# Altium footprint library Card_reader.PcbLib: 19 footprints (part 1 of 2)
Each footprint in its own frame and in the unit in brackets; x right, y up, seen from the top. Pads: shape width x height; smd on the part's side, far side on the other; paste and mask are expansions set on the pad; w line width, h text height; cw(c..) or ccw(c..) is an arc to the next point about the centre after c.
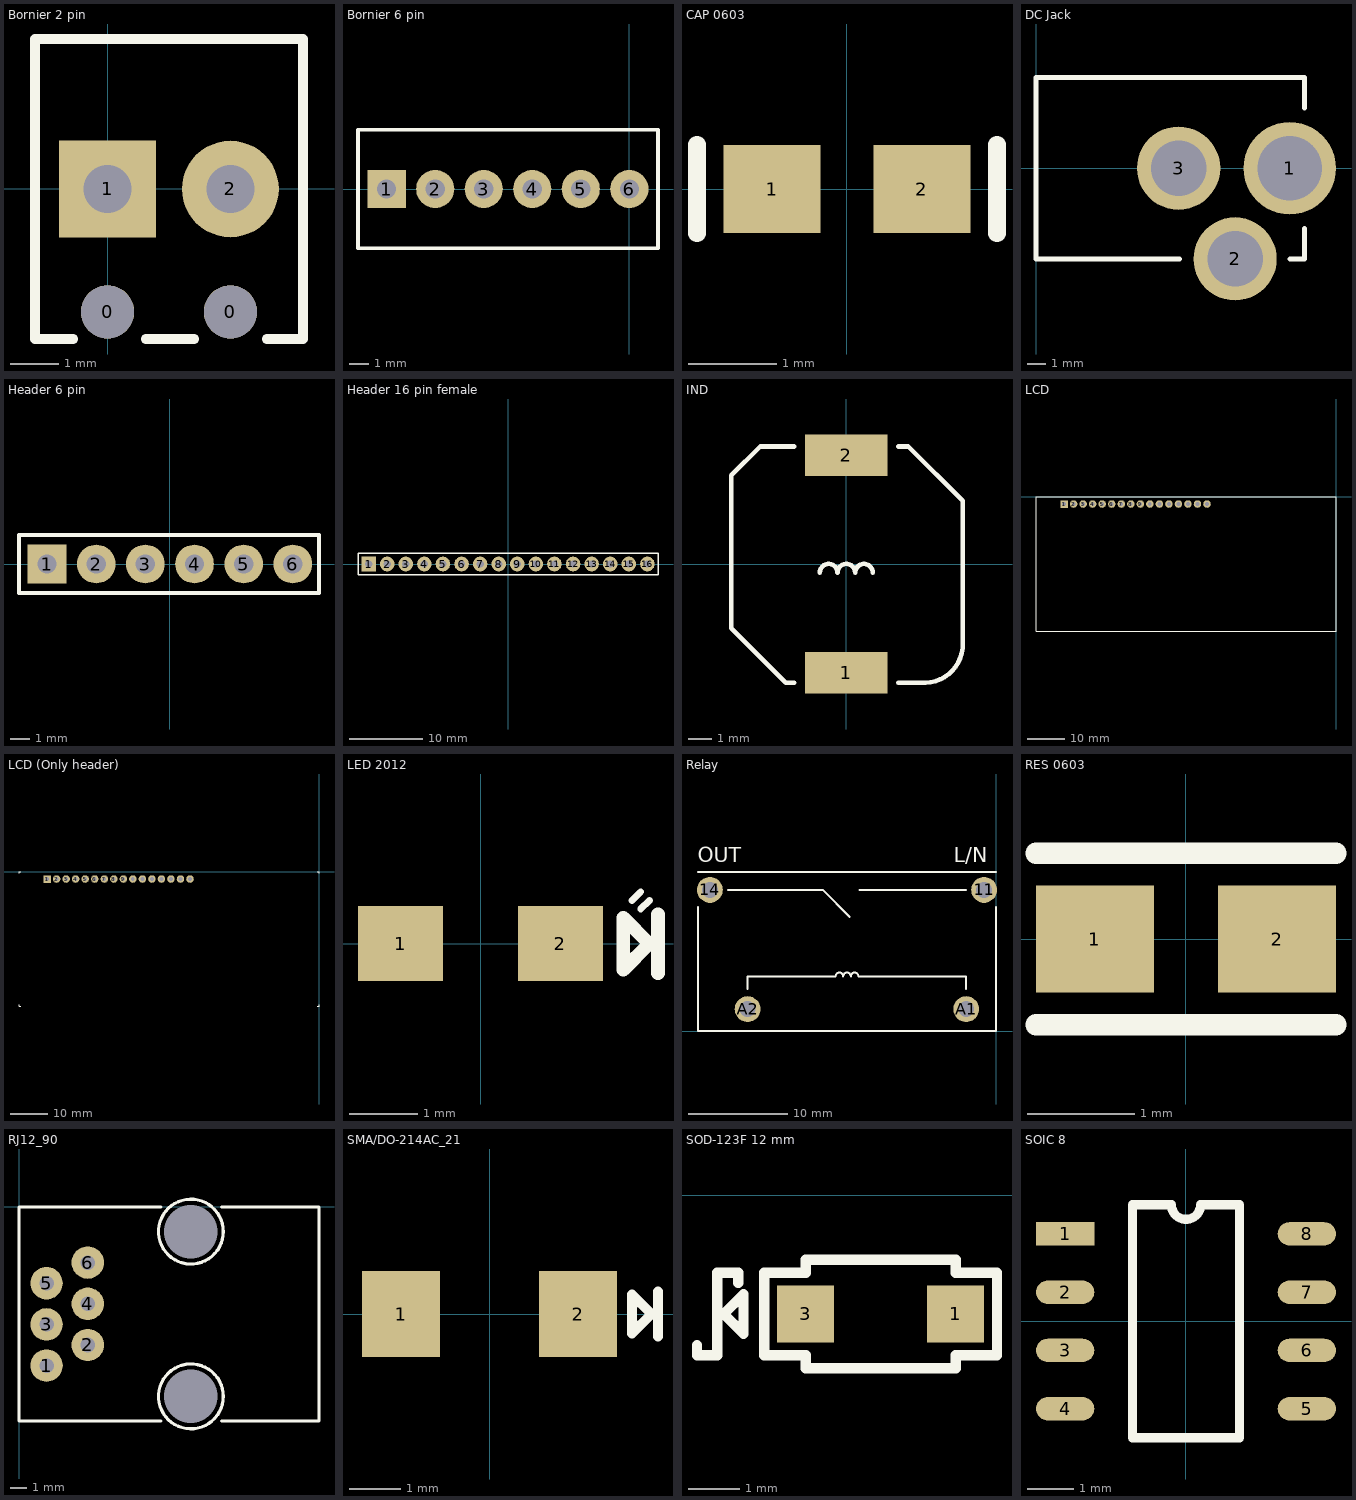
[diagram p0: the footprints below, top view; thin cyan lines are the x and y axes]

## Bornier 2 pin [mm]
pads (4):
  round 1.1 hole 1.1: 0(0,-2.54) 0(2.54,-2.54)
  rect 2x2 hole 1: 1(0,0)
  round 2 hole 1: 2(2.54,0)
Top Overlay:
  lines w0.2: -0.71,-3.1 -1.5,-3.1 -1.5,3.1 4.04,3.1 4.04,-3.1 3.29,-3.1 ; 0.79,-3.1 1.79,-3.1
3D body: height 8.5, standoff -3.5, extent -1.5,-3.1 4.04,3.1

## Bornier 6 pin [mm]
pads (6):
  rect 2x2 hole 1: 1(-12.7,0)
  round 2 hole 1: 2(-10.16,0) 3(-7.62,0) 4(-5.08,0) 5(-2.54,0) 6(0,0)
Top Overlay:
  lines w0.2: -14.2,-3.1 -14.2,3.1 1.5,3.1 1.5,-3.1 -14.2,-3.1
3D body: height 8.5, standoff -3.5, extent -14.2,-3.1 1.5,3.1

## CAP 0603 [mm]
pads (2):
  rect 1.1x1 smd: 1(-0.85,0) 2(0.85,0)
Top Overlay:
  lines w0.2: -1.7,-0.5 -1.7,0.5 ; 1.7,-0.5 1.7,0.5
3D body: height 0.3, standoff 0, extent -0.8,-0.4 0.8,0.4

## DC Jack [mm]
pads (3):
  round 5 hole 3.5: 1(13.7,0)
  round 4.5 hole 3: 2(10.75,-4.9) 3(7.7,0)
Top Overlay:
  lines w0.254: 7.75,-4.9 0,-4.9 0,4.9 14.5,4.9 14.5,3.25 ; 13.7,-4.9 14.5,-4.9 14.5,-3.25
3D body: height 10.75, standoff -4, extent 0,-4.8 14.2,4.9

## Header 6 pin [mm]
pads (6):
  rect 2x2 hole 1: 1(-6.35,0)
  round 2 hole 1: 2(-3.81,0) 3(-1.27,0) 4(1.27,0) 5(3.81,0) 6(6.35,0)
Top Overlay:
  lines w0.2: -7.8,-1.5 -7.8,1.5 7.7,1.5 7.7,-1.5 -7.8,-1.5
3D body: height 8.85, standoff -2.58, extent -7.695,-1.25 7.545,1.29

## Header 16 pin female [mm]
pads (16):
  rect 2x2 hole 1: 1(-19.05,0)
  round 2 hole 1: 2(-16.51,0) 3(-13.97,0) 4(-11.43,0) 5(-8.89,0) 6(-6.35,0) 7(-3.81,0) 8(-1.27,0) 9(1.27,0) 10(3.81,0) 11(6.35,0) 12(8.89,0) 13(11.43,0) 14(13.97,0) 15(16.51,0) 16(19.05,0)
Top Overlay:
  lines w0.2: -20.5,-1.5 20.5,-1.5 20.5,1.5 -20.5,1.5 -20.5,-1.5
3D body: height 8.79, standoff -3.08, extent -20.395,-1.237 20.395,1.238

## IND [mm]
pads (2):
  rect 3.56x1.78 smd: 1(0,-4.7) 2(0,4.7)
Top Overlay:
  lines w0.2: -2.25,-5.125 -2.625,-5.125 -4.975,-2.775 -4.975,3.825 -3.725,5.075 -2.25,5.075 ; -1.143,-0.375 cw(c-0.762,-0.375) -0.381,-0.375 cw(c0,-0.375) 0.381,-0.375 cw(c0.762,-0.375) 1.143,-0.375 ; 2.25,-5.125 3.2,-5.125 ccw(c3.363,-3.463) 5.025,-3.625 5.025,2.725 2.675,5.075 2.25,5.075
3D body: height 5, standoff -0.1, extent -5.1,-5.15 5.1,5.15

## LCD [mm]
pads (16):
  rect 2x2 hole 1: 1(-72.5,-2)
  round 2 hole 1: 2(-69.96,-2) 3(-67.42,-2) 4(-64.88,-2) 5(-62.34,-2) 6(-59.8,-2) 7(-57.26,-2) 8(-54.72,-2) 9(-52.18,-2) 10(-49.64,-2) 11(-47.1,-2) 12(-44.56,-2) 13(-42.02,-2) 14(-39.48,-2) 15(-36.94,-2) 16(-34.4,-2)
Top Overlay:
  lines w0.254: -80,-36 -51.2,-36 0,-36 0,0 -80,0 -80,-36
3D body: height 8.79, standoff -3.08, extent -73.75,-3.237 -32.96,-0.763

## LCD (Only header) [mm]
pads (16):
  rect 2x2 hole 1: 1(-72.5,-2)
  round 2 hole 1: 2(-69.96,-2) 3(-67.42,-2) 4(-64.88,-2) 5(-62.34,-2) 6(-59.8,-2) 7(-57.26,-2) 8(-54.72,-2) 9(-52.18,-2) 10(-49.64,-2) 11(-47.1,-2) 12(-44.56,-2) 13(-42.02,-2) 14(-39.48,-2) 15(-36.94,-2) 16(-34.4,-2)
Top Overlay:
  lines w0.2: -80,-35.5 -80,-36 -79.5,-36 ; -80,-0.5 -80,0 -79.5,0 ; -0.5,-36 0,-36 0,-35.5 ; -0.5,0 0,0 0,-0.5
3D body: height 8.79, standoff -3.08, extent -73.75,-3.237 -32.96,-0.763

## LED 2012 [mm]
pads (2):
  rect 1.25x1.1 smd: 1(-1.175,0) 2(1.175,0)
Top Overlay:
  lines w0.1: 2.227,0.635 2.354,0.762 ; 2.354,0.508 2.481,0.635
  lines w0.2: 2.608,-0.435 2.608,0.435 ; 2.1,-0.381 2.1,0.381 2.481,0 2.1,-0.381
3D body: height 1.1, standoff 0, extent -1.001,-0.625 1.001,0.625

## Relay [mm]
pads (4):
  round 2.6 hole 1.6: 11(-1.2,14.2) 14(-28.8,14.2) A1(-3,2.2) A2(-25,2.2)
Top Overlay:
  lines w0.2: -30,12.5 -30,0 0,0 0,12.5 ; -30,16 0,16 ; -27,14.2 -17.5,14.2 -17.45,14.2 -14.75,11.5 ; -25,4.25 -25,5.5 -16.143,5.5 cw(c-15.762,5.5) -15.381,5.5 cw(c-15,5.5) -14.619,5.5 cw(c-14.238,5.5) -13.857,5.5 -3,5.5 -3,4.25 ; -13.75,14.2 -3,14.2
  text "L/N" at -4.25,17 h1.52
  text "OUT" at -30,17 h1.52
3D body: height 26.5, standoff 0, extent -30,0 0,16

## RES 0603 [mm]
pads (2):
  rect 1.1x1 smd: 1(-0.85,0) 2(0.85,0)
Top Overlay:
  lines w0.2: -1.4,-0.8 1.4,-0.8 ; -1.4,0.8 1.4,0.8
3D body: height 0.43, standoff -0.03, extent -0.775,-0.43 0.775,0.43

## RJ12_90 [mm]
pads (8):
  round 2 hole 0.9: 1(1.7,-9.78) 2(4.24,-8.51) 3(1.7,-7.24) 4(4.24,-5.97) 5(1.7,-4.7) 6(4.24,-3.43)
  round 1.524 hole 3.3: ""(10.6,-11.68) ""(10.6,-1.52)
Top Overlay:
  circle w0.2: c10.6,-1.52 r2
  circle w0.2: c10.6,-11.68 r2
  lines w0.2: 8.75,-13.2 0,-13.2 0,0 8.75,0 ; 12.5,-13.2 18.5,-13.2 18.5,0 12.5,0
3D body: height 11.75, standoff -2.95, extent 0.4,-13.2 18.5,0

## SMA/DO-214AC_21 [mm]
pads (2):
  rect 1.52x1.68 smd: 1(-1.725,0) 2(1.725,0)
Top Overlay:
  lines w0.2: 3.283,-0.435 3.283,0.435 ; 2.775,-0.381 2.775,0.381 3.156,0 2.775,-0.381
3D body: height 2.74, standoff 0, extent -2.375,-1.45 2.375,1.45

## SOD-123F 12 mm [mm]
pads (2):
  rect 1.1x1.1 smd: 1(5.7,-2.3) 3(2.8,-2.3)
Top Overlay:
  lines w0.2: 0.7,-2.9 0.7,-3.1 1.092,-3.1 1.092,-1.5 1.5,-1.5 1.5,-1.7 ; 2.8,-3.1 2,-3.1 2,-1.5 2.8,-1.5 2.8,-1.25 ; 2.8,-3.1 2.8,-3.1 ; 2.8,-3.1 2.8,-3.35 5.7,-3.35 ; 2.8,-1.25 5.7,-1.25 5.7,-1.5 ; 2.8,-1.25 2.8,-1.25 ; 5.7,-3.35 5.7,-3.35 ; 5.7,-3.35 5.7,-3.1 6.5,-3.1 6.5,-1.5 5.7,-1.5 ; 5.7,-1.5 5.7,-1.5 ; 1.219,-2.3 1.6,-1.919 1.6,-2.681 1.219,-2.3
3D body: height 1.2, standoff -0.01, extent 2.35,-3.15 6.1,-1.45

## SOIC 8 [mm]
pads (8):
  rect 1.27x0.51 smd: 1(-2.635,1.905)
  oval 1.27x0.51 smd: 2(-2.635,0.635) 3(-2.635,-0.635) 4(-2.635,-1.905) 5(2.635,-1.905) 6(2.635,-0.635) 7(2.635,0.635) 8(2.635,1.905)
Top Overlay:
  lines w0.2: -1.165,-2.54 1.165,-2.54 1.165,2.54 0.318,2.54 cw(c0,2.54) -0.318,2.54 -1.165,2.54 -1.165,-2.54
3D body: height 1.9, standoff -0.05, extent -3.099,-2.502 3.099,2.502